# EAGLE library part RFM95W (library Dist Monitoring Sensors for Thesis)
Adafruit LORA Packet Radio
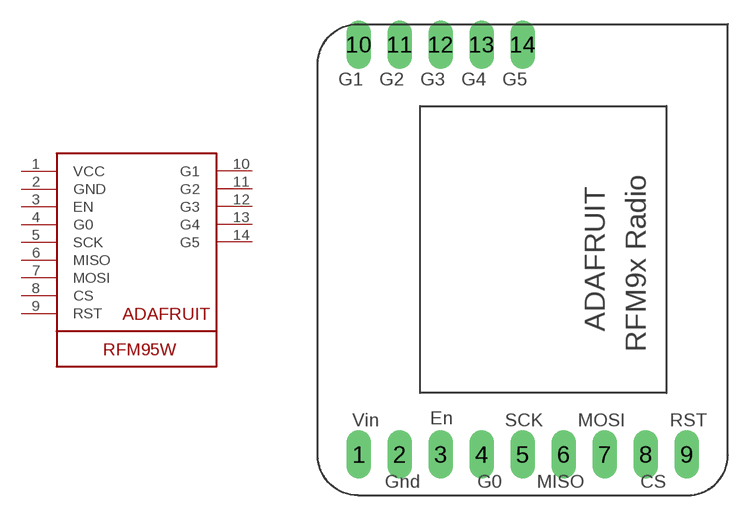
[diagram p0: symbol with the pads of RFM95W; footprint RFM95W]

Designator prefix -

## RFM95W  [RFM95W]
1  VCC  pwr
2  GND  pwr
3  EN
4  G0
5  SCK
6  MISO
7  MOSI
8  CS
9  RST
10  G1
11  G2
12  G3
13  G4
14  G5

## Footprint RFM95W (pad centres in mm)
drill 1 long: 1 2.54,2.54; 2 5.08,2.54; 3 7.62,2.54; 4 10.16,2.54; 5 12.7,2.54; 6 15.24,2.54; 7 17.78,2.54; 8 20.32,2.54; 9 22.86,2.54; 10 2.54,27.94; 11 5.08,27.94; 12 7.62,27.94; 13 10.16,27.94; 14 12.7,27.94